# Altium footprint library CAP.PcbLib: 13 footprints
Each footprint in its own frame and in the unit in brackets; x right, y up, seen from the top. Pads: shape width x height; smd on the part's side, far side on the other; paste and mask are expansions set on the pad; w line width, h text height; cw(c..) or ccw(c..) is an arc to the next point about the centre after c.
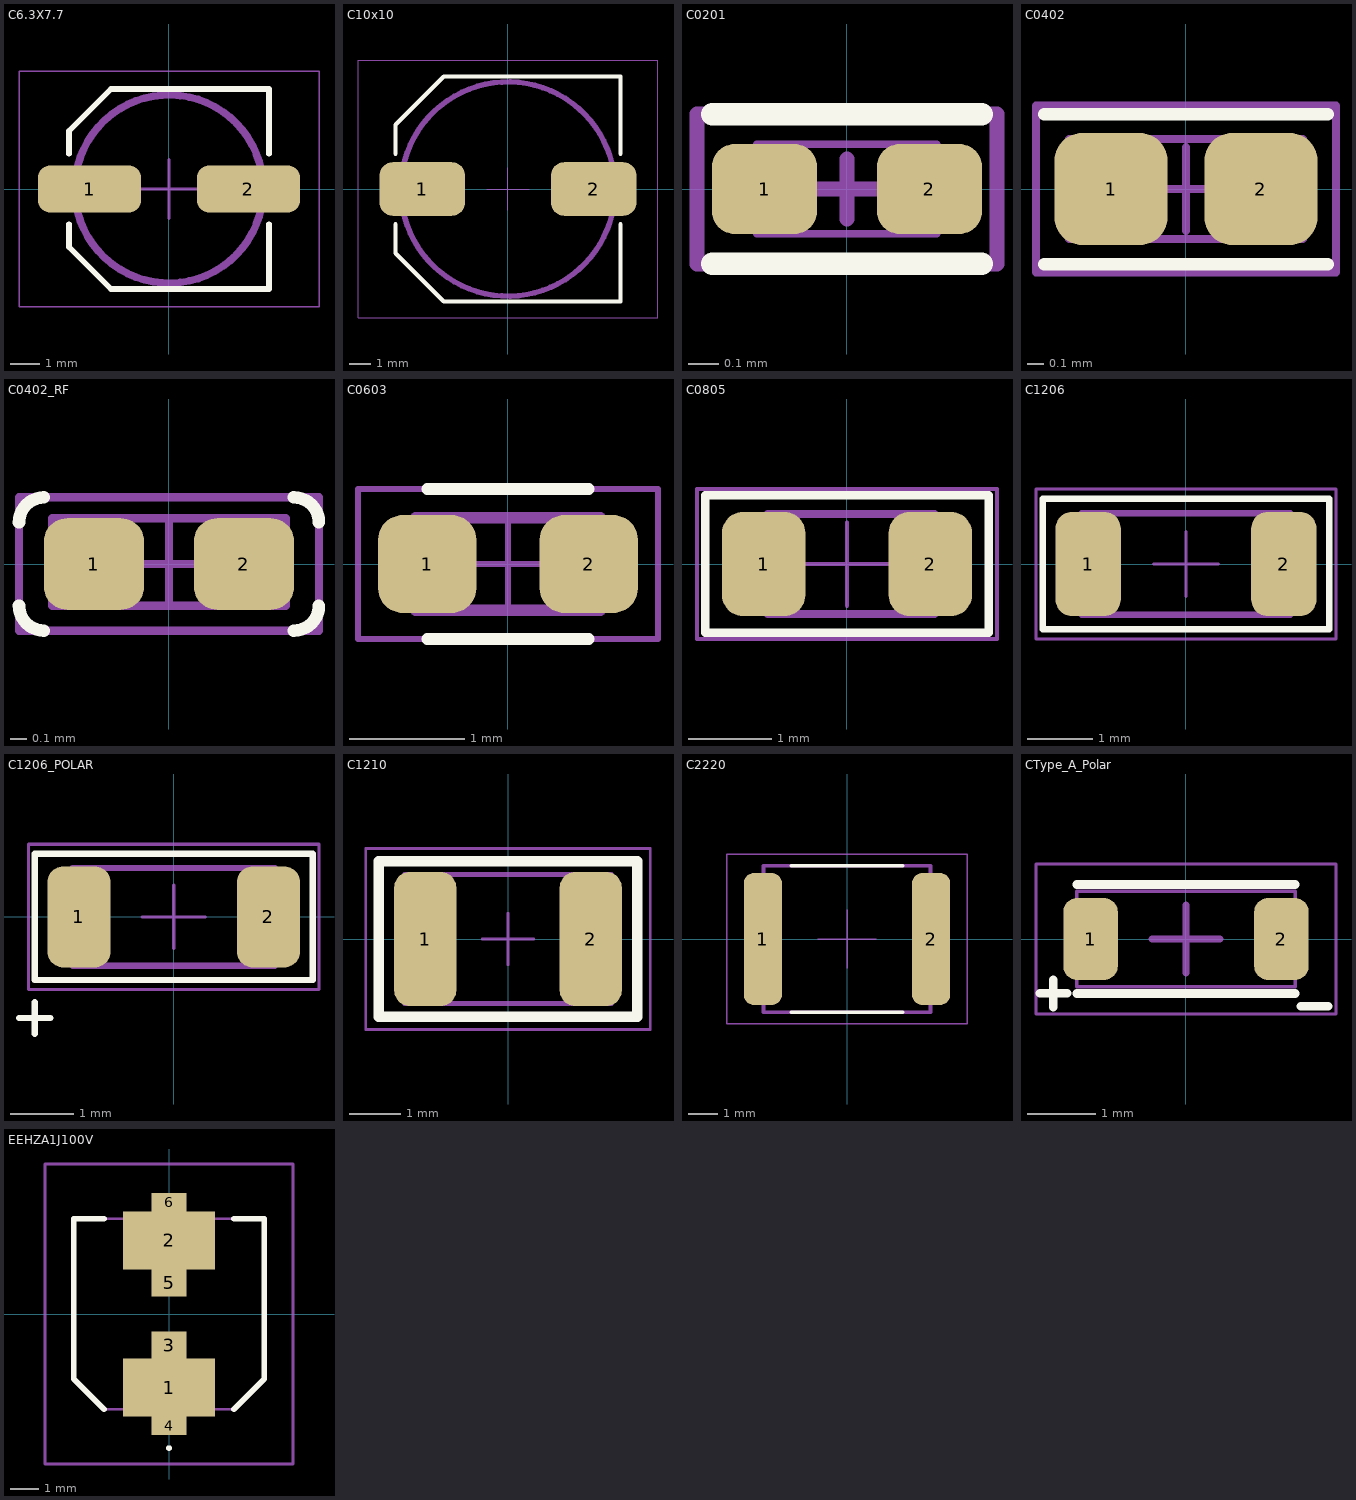
[diagram p0: the footprints below, top view; thin cyan lines are the x and y axes]

## C6.3X7.7 [mm] "Aluminum Electrolytic Capacitor, Diameter 6.3mm, Height 8mm, Pitch 5.4mm"
height 8
pads (2):
  rrect50% 3.5x1.6 smd: 1(-2.7,0) 2(2.7,0)
Top Overlay:
  lines w0.2: -3.4,-1.2 -3.4,-1.975 -1.975,-3.4 3.4,-3.4 3.4,-1.2 ; -3.4,1.2 -3.4,1.975 -1.975,3.4 3.4,3.4 3.4,1.2
Top Assembly:
  circle w0.254: c0,0 r3.202
  text ".Designator" at -1.126,-0.113 h0.5
Top Courtyard (Mech15):
  lines w0.05: -5.1,-4 5.1,-4 5.1,4 -5.1,4 -5.1,-4
  lines w0.1: -1,0 1,0 ; 0,-1 0,1
3D body "EEE-HA1C221XP.STEP": height 7.7, standoff 0, extent -3.65,-3.3 3.65,3.3

## C10x10 [mm] "Aluminum Electrolytic Capacitor, Diameter 10mm, Height 10.8mm, Pitch 8mm"
height 10.8
pads (2):
  rrect50% 4x2.5 smd: 1(-4,0) 2(4,0)
Top Overlay:
  lines w0.2: -5.25,-1.65 -5.25,-3 -3,-5.25 5.25,-5.25 5.25,-1.65 ; -5.25,1.65 -5.25,3 -3,5.25 5.25,5.25 5.25,1.65
Top Assembly:
  circle w0.254: c0,0 r5
  text ".Designator" at -1.126,-0.113 h0.5
Top Courtyard (Mech15):
  lines w0.05: -1,0 1,0 ; 0,-1 0,1 ; -7,-6 7,-6 7,6 -7,6 -7,-6
3D body "EEEHAC681UAP.STEP": height 9.3, standoff -0.9, extent -5.85,-5.15 5.85,5.15

## C0201 [mm]
pads (2):
  rrect50% 0.35x0.3 smd: 1(-0.275,0) 2(0.275,0)
Top Overlay:
  lines w0.075: -0.45,-0.25 0.45,-0.25 ; -0.45,0.25 0.45,0.25
Top Assembly:
  lines w0.025: -0.3,-0.15 0.3,-0.15 0.3,0.15 -0.3,0.15 -0.3,-0.15
  text ".Designator" at -0.226,-0.023 h0.1
Top Courtyard (Mech15):
  lines w0.05: -0.1,0 0.1,0 ; 0,-0.1 0,0.1 ; -0.5,-0.25 0.5,-0.25 0.5,0.25 -0.5,0.25 -0.5,-0.25
3D body "GRM033C71C104KE14D.STEP": height 0.33, standoff 0, extent -0.3,-0.15 0.3,0.15

## C0402 [mm]
pads (2):
  rrect50% 0.68x0.672 smd: 1(-0.45,0) 2(0.45,0)
Top Overlay:
  lines w0.075: -0.85,-0.45 0.85,-0.45 ; -0.85,0.45 0.85,0.45
Top Assembly:
  lines w0.05: -0.701,-0.3 0.701,-0.3 0.701,0.3 -0.701,0.3 -0.701,-0.3
  text ".Designator" at -0.674,-0.068 h0.3
Top Courtyard (Mech15):
  lines w0.05: -0.25,0 0.25,0 ; 0,-0.25 0,0.25 ; -0.9,-0.5 0.9,-0.5 0.9,0.5 -0.9,0.5 -0.9,-0.5
3D body "Cap_Murata_GJM1551C1H7R0DB01D_eec.STEP": height 0.55, standoff 0, extent -0.5,-0.25 0.5,0.25

## C0402_RF [mm]
pads (2):
  rrect50% 0.6x0.55 smd: 1(-0.45,0) 2(0.45,0)
Top Overlay:
  lines w0.075: -0.9,-0.25 ccw(c-0.75,-0.25) -0.75,-0.4 ; -0.9,0.25 cw(c-0.75,0.25) -0.75,0.4 ; 0.75,-0.4 ccw(c0.75,-0.25) 0.9,-0.25 ; 0.75,0.4 cw(c0.75,0.25) 0.9,0.25
Top Assembly:
  lines w0.05: -0.701,-0.25 0.701,-0.25 0.701,0.275 -0.701,0.275 -0.701,-0.25
  text ".Designator" at -0.674,-0.068 h0.3
Top Courtyard (Mech15):
  lines w0.05: -0.25,0 0.25,0 ; 0,-0.25 0,0.25 ; -0.9,-0.4 0.9,-0.4 0.9,0.4 -0.9,0.4 -0.9,-0.4
3D body "Cap_Murata_GJM1551C1H7R0DB01D_eec.STEP": height 0.55, standoff 0, extent -0.5,-0.25 0.5,0.25

## C0603 [mm]
height 0.45
pads (2):
  rrect50% 0.85x0.85 smd: 1(-0.7,0) 2(0.7,0)
Top Overlay:
  lines w0.1: -0.7,-0.65 0.7,-0.65 ; -0.7,0.65 0.7,0.65
Top Assembly:
  lines w0.1: -0.8,-0.4 0.8,-0.4 0.8,0.4 -0.8,0.4 -0.8,-0.4
  text ".Designator" at -0.674,-0.068 h0.3
Top Courtyard (Mech15):
  lines w0.05: -0.375,0 0.375,0 ; 0,-0.375 0,0.375 ; -1.3,-0.65 1.3,-0.65 1.3,0.65 -1.3,0.65 -1.3,-0.65
3D body "SW3dPS-0603 SMD Capacitor.STEP": height 0.3, standoff 0, extent -0.8,-0.4 0.8,0.4

## C0805 [mm]
height 0.45
pads (2):
  rrect50% 1x1.25 smd: 1(-1,0) 2(1,0)
Top Overlay:
  lines w0.1: -1.7,-0.825 1.7,-0.825 1.7,0.825 -1.7,0.825 -1.7,-0.825
Top Assembly:
  lines w0.1: -0.949,-0.6 1.05,-0.6 1.05,0.6 -0.949,0.6 -0.949,-0.6
  text ".Designator" at -0.674,-0.068 h0.3
Top Courtyard (Mech15):
  lines w0.05: -0.5,0 0.5,0 ; 0,-0.5 0,0.5 ; -1.8,-0.9 1.8,-0.9 1.8,0.9 -1.8,0.9 -1.8,-0.9
3D body "SW3dPS-0805 SMD Capacitor.STEP": height 0.78, standoff 0, extent -1,-0.625 1,0.625

## C1206 [mm]
height 0.6
pads (2):
  rrect50% 1x1.6 smd paste-0.178: 1(-1.5,0) 2(1.5,0)
Top Overlay:
  lines w0.1: -2.2,-1 2.2,-1 2.2,1 -2.2,1 -2.2,-1
Top Assembly:
  lines w0.1: -1.6,-0.775 -1.6,0.775 1.6,0.775 1.6,-0.775 -1.6,-0.775
  text ".Designator" at -0.674,-0.068 h0.3
Top Courtyard (Mech15):
  lines w0.05: -0.5,0 0.5,0 ; 0,-0.5 0,0.5 ; -2.3,-1.15 2.3,-1.15 2.3,1.15 -2.3,1.15 -2.3,-1.15
3D body "SW3dPS-1206 SMD Capacitor.STEP": height 1, standoff 0, extent -1.6,-0.8 1.6,0.8

## C1206_POLAR [mm]
height 0.6
pads (2):
  rrect50% 1x1.6 smd paste-0.178: 1(-1.5,0) 2(1.5,0)
Top Overlay:
  lines w0.1: -2.45,-1.6 -1.95,-1.6 ; -2.2,-1.85 -2.2,-1.35 ; -2.2,-1 -2.2,1 2.2,1 2.2,-1 -2.2,-1
Top Assembly:
  circle w0.1: c-1.3,-0.55 r0.05
  lines w0.1: -1.6,-0.775 -1.6,0.775 1.6,0.775 1.6,-0.775 -1.6,-0.775
  text ".Designator" at -0.674,-0.068 h0.3
Top Courtyard (Mech15):
  lines w0.05: -0.5,0 0.5,0 ; 0,-0.5 0,0.5 ; -2.3,-1.15 2.3,-1.15 2.3,1.15 -2.3,1.15 -2.3,-1.15
3D body "SW3dPS-1206 SMD Capacitor.STEP": height 1, standoff 0, extent -1.6,-0.8 1.6,0.8

## C1210 [mm]
height 2.5
pads (2):
  rrect50% 1.2x2.6 smd: 1(-1.6,0) 2(1.6,0)
Top Overlay:
  lines w0.2: -2.5,-1.5 2.5,-1.5 2.5,1.5 -2.5,1.5 -2.5,-1.5
Top Assembly:
  lines w0.1: -2,-1.244 2,-1.244 2,1.245 -2,1.245 -2,-1.244
  text ".Designator" at -0.674,-0.068 h0.3
Top Courtyard (Mech15):
  lines w0.05: -0.5,0 0.5,0 ; 0,-0.5 0,0.5 ; -2.75,-1.75 2.75,-1.75 2.75,1.75 -2.75,1.75 -2.75,-1.75
3D body "User Library-1210(3225M) Cap.STEP": height 1.7, standoff 0, extent -2,-1.245 2,1.245

## C2220 [mm]
height 2.8
pads (2):
  rrect50% 1.3x4.5 smd: 1(-2.875,0) 2(2.875,0)
Top Overlay:
  lines w0.127: -1.905,-2.5 1.905,-2.5 ; -1.905,2.5 1.905,2.5
Top Assembly:
  lines w0.127: -2.85,-2.5 2.85,-2.5 2.85,2.5 -2.85,2.5 -2.85,-2.5
  text ".Designator" at -1.5,-0.1 h0.3
Top Courtyard (Mech15):
  lines w0.05: -1,0 1,0 ; 0,-1 0,1 ; -4.1,-2.9 4.1,-2.9 4.1,2.9 -4.1,2.9 -4.1,-2.9
3D body "step_temp.STEP": height 2.8, standoff 0, extent -2.85,-2.5 2.85,2.5

## CType_A_Polar [mm]
pads (2):
  rrect50% 0.8x1.2 smd: 1(-1.4,0) 2(1.4,0)
Top Overlay:
  lines w0.127: -2.145,-0.798 -1.745,-0.798 ; -1.945,-0.998 -1.945,-0.598 ; -1.6,-0.8 1.6,-0.8 ; -1.6,0.8 1.6,0.8 ; 1.682,-0.984 2.082,-0.984
Top Assembly:
  lines w0.05: -1.6,-0.7 1.6,-0.7 1.6,0.7 -1.6,0.7 -1.6,-0.7
  text ".Designator" at -1.5,-0.1 h0.3
Top Courtyard (Mech15):
  lines w0.05: -2.2,-1.1 2.2,-1.1 2.2,1.1 -2.2,1.1 -2.2,-1.1
  lines w0.1: -0.5,0 0.5,0 ; 0,-0.5 0,0.5
3D body "T491A475K025AT.STEP": height 1.8, standoff 0, extent -1.6,-0.8 1.6,0.8

## EEHZA1J100V [mm]
pads (6):
  rect 3.2x2 smd: 1(0,-2.55) 2(0,2.55)
  rect 1.2x0.95 smd: 3(0,-1.075) 5(0,1.075)
  rect 1.2x0.65 smd: 4(0,-3.875) 6(0,3.875)
Top Overlay:
  lines w0.1: 0,-4.7 cw(c0,-4.65) 0,-4.6 cw(c0,-4.65) 0,-4.7
  lines w0.2: -2.25,-3.3 -3.3,-2.25 -3.3,3.3 -2.25,3.3 ; 2.25,-3.3 3.3,-2.25 3.3,3.3 2.25,3.3
Top Courtyard (Mech15):
  lines w0.1: -3.3,-2.25 -2.25,-3.3 ; -3.3,-2.25 -3.3,3.3 3.3,3.3 3.3,-2.25 2.25,-3.3 -2.25,-3.3 ; -3.3,-2.25 -2.25,-3.3
Bottom Assembly (Mech20):
  lines w0.1: -4.3,-5.2 4.3,-5.2 4.3,5.2 -4.3,5.2 -4.3,-5.2